# Altium footprint library BQ29330DBT.PcbLib: 3 footprints
Each footprint in its own frame and in the unit in brackets; x right, y up, seen from the top. Pads: shape width x height; smd on the part's side, far side on the other; paste and mask are expansions set on the pad; w line width, h text height; cw(c..) or ccw(c..) is an arc to the next point about the centre after c.
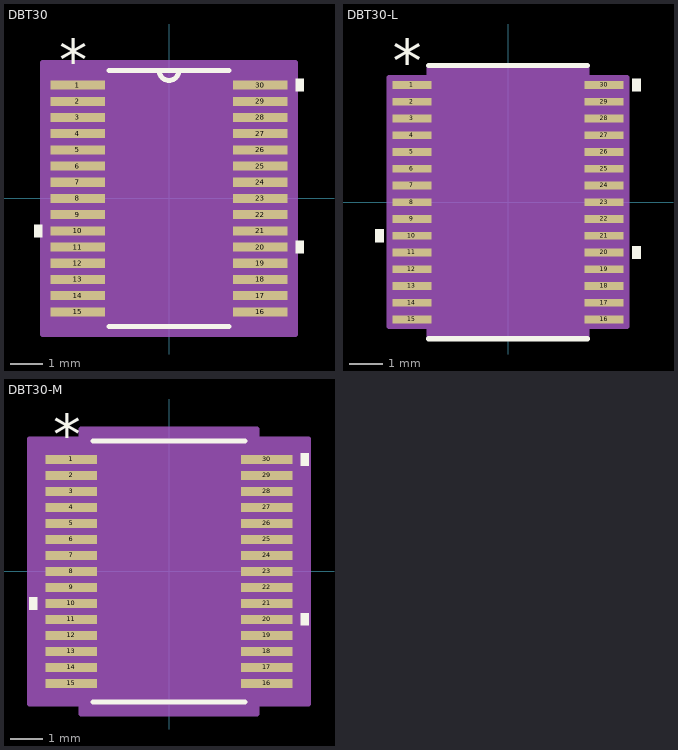
[diagram p0: the footprints below, top view; thin cyan lines are the x and y axes]

## DBT30 [mil]
pads (30):
  rect 66x11 smd paste-33 mask-33: 1(-111,137.8) 2(-111,118.11) 3(-111,98.43) 4(-111,78.74) 5(-111,59.06) 6(-111,39.37) 7(-111,19.68) 8(-111,0) 9(-111,-19.69) 10(-111,-39.37) 11(-111,-59.06) 12(-111,-78.74) 13(-111,-98.43) 14(-111,-118.11) 15(-111,-137.8) 16(111,-137.8) 17(111,-118.11) 18(111,-98.43) 19(111,-78.74) 20(111,-59.06) 21(111,-39.37) 22(111,-19.68) 23(111,0) 24(111,19.69) 25(111,39.37) 26(111,59.06) 27(111,78.74) 28(111,98.43) 29(111,118.11) 30(111,137.8)
Top Overlay:
  region: 154,145.3 164,145.3 164,130.3 154,130.3
  region: 154,-51.56 164,-51.56 164,-66.56 154,-66.56
  region: -154,-31.87 -164,-31.87 -164,-46.87 -154,-46.87
  lines w6: -73.24,-155.5 73.24,-155.5 ; -73.24,155.5 73.24,155.5 ; -12,155.5 ccw(c0,155.5) 12,155.5
  text "*" at -133.5,143.8 h50
Mechanical 13:
  lines w0: -12,155.5 ccw(c0,155.5) 12,155.5
  lines w1: -130,-143.3 -88.5,-143.3 -88.5,-132.3 -130,-132.3 -130,-143.3 ; -130,-123.61 -88.5,-123.61 -88.5,-112.61 -130,-112.61 -130,-123.61 ; -130,-103.93 -88.5,-103.93 -88.5,-92.93 -130,-92.93 -130,-103.93 ; -130,-84.24 -88.5,-84.24 -88.5,-73.24 -130,-73.24 -130,-84.24 ; -130,-64.56 -88.5,-64.56 -88.5,-53.56 -130,-53.56 -130,-64.56 ; -130,-44.87 -88.5,-44.87 -88.5,-33.87 -130,-33.87 -130,-44.87 ; -130,-25.19 -88.5,-25.19 -88.5,-14.19 -130,-14.19 -130,-25.19 ; -130,-5.5 -88.5,-5.5 -88.5,5.5 -130,5.5 -130,-5.5 ; -130,14.19 -88.5,14.19 -88.5,25.18 -130,25.18 -130,14.19 ; -130,33.87 -88.5,33.87 -88.5,44.87 -130,44.87 -130,33.87 ; -130,53.56 -88.5,53.56 -88.5,64.56 -130,64.56 -130,53.56 ; -130,73.24 -88.5,73.24 -88.5,84.24 -130,84.24 -130,73.24 ; -130,92.93 -88.5,92.93 -88.5,103.93 -130,103.93 -130,92.93 ; -130,112.61 -88.5,112.61 -88.5,123.61 -130,123.61 -130,112.61 ; -130,132.3 -88.5,132.3 -88.5,143.3 -130,143.3 -130,132.3 ; -88.5,-155.5 -88.5,155.5 88.5,155.5 88.5,-155.5 -88.5,-155.5 ; 88.5,-143.3 130,-143.3 130,-132.3 88.5,-132.3 88.5,-143.3 ; 88.5,-123.61 130,-123.61 130,-112.61 88.5,-112.61 88.5,-123.61 ; 88.5,-103.93 130,-103.93 130,-92.93 88.5,-92.93 88.5,-103.93 ; 88.5,-84.24 130,-84.24 130,-73.24 88.5,-73.24 88.5,-84.24 ; 88.5,-64.56 130,-64.56 130,-53.56 88.5,-53.56 88.5,-64.56 ; 88.5,-44.87 130,-44.87 130,-33.87 88.5,-33.87 88.5,-44.87 ; 88.5,-25.18 130,-25.18 130,-14.19 88.5,-14.19 88.5,-25.18 ; 88.5,-5.5 130,-5.5 130,5.5 88.5,5.5 88.5,-5.5 ; 88.5,14.19 130,14.19 130,25.19 88.5,25.19 88.5,14.19 ; 88.5,33.87 130,33.87 130,44.87 88.5,44.87 88.5,33.87 ; 88.5,53.56 130,53.56 130,64.56 88.5,64.56 88.5,53.56 ; 88.5,73.24 130,73.24 130,84.24 88.5,84.24 88.5,73.24 ; 88.5,92.93 130,92.93 130,103.93 88.5,103.93 88.5,92.93 ; 88.5,112.61 130,112.61 130,123.61 88.5,123.61 88.5,112.61 ; 88.5,132.3 130,132.3 130,143.3 88.5,143.3 88.5,132.3
  text "*" at -133.5,143.8 h50
Mechanical 15:
  region: 154,-165.5 -154,-165.5 -154,165.5 154,165.5
  lines w6: -154,-165.5 154,-165.5 154,165.5 -154,165.5 -154,-165.5
3D body "DBT30.step": height 47.09, standoff 0, extent -128.86,-155.54 131.14,155.49
3D body "DBT30.step": height 47.09, standoff 0, extent -130,-155.51 130,155.51

## DBT30-L [mil]
pads (30):
  rect 46x9 smd paste+0 mask+0: 1(-113,137.8) 2(-113,118.11) 3(-113,98.43) 4(-113,78.74) 5(-113,59.06) 6(-113,39.37) 7(-113,19.68) 8(-113,0) 9(-113,-19.69) 10(-113,-39.37) 11(-113,-59.06) 12(-113,-78.74) 13(-113,-98.43) 14(-113,-118.11) 15(-113,-137.8) 16(113,-137.8) 17(113,-118.11) 18(113,-98.43) 19(113,-78.74) 20(113,-59.06) 21(113,-39.37) 22(113,-19.68) 23(113,0) 24(113,19.69) 25(113,39.37) 26(113,59.06) 27(113,78.74) 28(113,98.43) 29(113,118.11) 30(113,137.8)
Top Overlay:
  region: -146,-31.87 -156,-31.87 -156,-46.87 -146,-46.87
  region: 146,-51.56 156,-51.56 156,-66.56 146,-66.56
  region: 146,145.3 156,145.3 156,130.3 146,130.3
  lines w6: -93.5,-160.5 93.5,-160.5 ; -93.5,160.5 93.5,160.5
  text "*" at -135.5,141.8 h50
Mechanical 13:
  lines w0: -12,155.5 ccw(c0,155.5) 12,155.5
  lines w1: -130,-143.3 -130,-132.3 -88.5,-132.3 -88.5,-143.3 -130,-143.3 ; -130,-123.61 -130,-112.61 -88.5,-112.61 -88.5,-123.61 -130,-123.61 ; -130,-103.93 -130,-92.93 -88.5,-92.93 -88.5,-103.93 -130,-103.93 ; -130,-84.24 -130,-73.24 -88.5,-73.24 -88.5,-84.24 -130,-84.24 ; -130,-64.56 -130,-53.56 -88.5,-53.56 -88.5,-64.56 -130,-64.56 ; -130,-44.87 -130,-33.87 -88.5,-33.87 -88.5,-44.87 -130,-44.87 ; -130,-25.19 -130,-14.19 -88.5,-14.19 -88.5,-25.19 -130,-25.19 ; -130,-5.5 -130,5.5 -88.5,5.5 -88.5,-5.5 -130,-5.5 ; -130,14.19 -130,25.18 -88.5,25.18 -88.5,14.19 -130,14.19 ; -130,33.87 -130,44.87 -88.5,44.87 -88.5,33.87 -130,33.87 ; -130,53.56 -130,64.56 -88.5,64.56 -88.5,53.56 -130,53.56 ; -130,73.24 -130,84.24 -88.5,84.24 -88.5,73.24 -130,73.24 ; -130,92.93 -130,103.93 -88.5,103.93 -88.5,92.93 -130,92.93 ; -130,112.61 -130,123.61 -88.5,123.61 -88.5,112.61 -130,112.61 ; -130,132.3 -130,143.3 -88.5,143.3 -88.5,132.3 -130,132.3 ; -88.5,-155.5 88.5,-155.5 88.5,155.5 -88.5,155.5 -88.5,-155.5 ; 88.5,-143.3 88.5,-132.3 130,-132.3 130,-143.3 88.5,-143.3 ; 88.5,-123.61 88.5,-112.61 130,-112.61 130,-123.61 88.5,-123.61 ; 88.5,-103.93 88.5,-92.93 130,-92.93 130,-103.93 88.5,-103.93 ; 88.5,-84.24 88.5,-73.24 130,-73.24 130,-84.24 88.5,-84.24 ; 88.5,-64.56 88.5,-53.56 130,-53.56 130,-64.56 88.5,-64.56 ; 88.5,-44.87 88.5,-33.87 130,-33.87 130,-44.87 88.5,-44.87 ; 88.5,-25.18 88.5,-14.19 130,-14.19 130,-25.18 88.5,-25.18 ; 88.5,-5.5 88.5,5.5 130,5.5 130,-5.5 88.5,-5.5 ; 88.5,14.19 88.5,25.19 130,25.19 130,14.19 88.5,14.19 ; 88.5,33.87 88.5,44.87 130,44.87 130,33.87 88.5,33.87 ; 88.5,53.56 88.5,64.56 130,64.56 130,53.56 88.5,53.56 ; 88.5,73.24 88.5,84.24 130,84.24 130,73.24 88.5,73.24 ; 88.5,92.93 88.5,103.93 130,103.93 130,92.93 88.5,92.93 ; 88.5,112.61 88.5,123.61 130,123.61 130,112.61 88.5,112.61 ; 88.5,132.3 88.5,143.3 130,143.3 130,132.3 88.5,132.3
  text "*" at -86,102.5 h50
Mechanical 15:
  region: -92.5,-146.3 -140,-146.3 -140,146.3 -92.5,146.3 -92.5,159.5 92.5,159.5 92.5,146.3 140,146.3 140,-146.3 92.5,-146.3 92.5,-159.5 -92.5,-159.5
  lines w6: -140,-146.3 -140,146.3 -92.5,146.3 -92.5,159.5 92.5,159.5 92.5,146.3 140,146.3 140,-146.3 92.5,-146.3 92.5,-159.5 -92.5,-159.5 -92.5,-146.3 -140,-146.3
3D body "DBT30.step": height 47.09, standoff 0, extent -130,-155.51 130,155.51

## DBT30-M [mil]
pads (30):
  rect 63.5x11 smd paste+0 mask+0: 1(-120.25,137.8) 2(-120.25,118.11) 3(-120.25,98.43) 4(-120.25,78.74) 5(-120.25,59.06) 6(-120.25,39.37) 7(-120.25,19.68) 8(-120.25,0) 9(-120.25,-19.69) 10(-120.25,-39.37) 11(-120.25,-59.06) 12(-120.25,-78.74) 13(-120.25,-98.43) 14(-120.25,-118.11) 15(-120.25,-137.8) 16(120.25,-137.8) 17(120.25,-118.11) 18(120.25,-98.43) 19(120.25,-78.74) 20(120.25,-59.06) 21(120.25,-39.37) 22(120.25,-19.68) 23(120.25,0) 24(120.25,19.69) 25(120.25,39.37) 26(120.25,59.06) 27(120.25,78.74) 28(120.25,98.43) 29(120.25,118.11) 30(120.25,137.8)
Top Overlay:
  region: -162,-31.87 -172,-31.87 -172,-46.87 -162,-46.87
  region: 162,-51.56 172,-51.56 172,-66.56 162,-66.56
  region: 162,145.3 172,145.3 172,130.3 162,130.3
  lines w6: -93.5,-160.5 93.5,-160.5 ; -93.5,160.5 93.5,160.5
  text "*" at -142.75,143.8 h50
Mechanical 13:
  lines w0: -12,155.5 ccw(c0,155.5) 12,155.5
  lines w1: -130,-143.3 -130,-132.3 -88.5,-132.3 -88.5,-143.3 -130,-143.3 ; -130,-123.61 -130,-112.61 -88.5,-112.61 -88.5,-123.61 -130,-123.61 ; -130,-103.93 -130,-92.93 -88.5,-92.93 -88.5,-103.93 -130,-103.93 ; -130,-84.24 -130,-73.24 -88.5,-73.24 -88.5,-84.24 -130,-84.24 ; -130,-64.56 -130,-53.56 -88.5,-53.56 -88.5,-64.56 -130,-64.56 ; -130,-44.87 -130,-33.87 -88.5,-33.87 -88.5,-44.87 -130,-44.87 ; -130,-25.19 -130,-14.19 -88.5,-14.19 -88.5,-25.19 -130,-25.19 ; -130,-5.5 -130,5.5 -88.5,5.5 -88.5,-5.5 -130,-5.5 ; -130,14.19 -130,25.18 -88.5,25.18 -88.5,14.19 -130,14.19 ; -130,33.87 -130,44.87 -88.5,44.87 -88.5,33.87 -130,33.87 ; -130,53.56 -130,64.56 -88.5,64.56 -88.5,53.56 -130,53.56 ; -130,73.24 -130,84.24 -88.5,84.24 -88.5,73.24 -130,73.24 ; -130,92.93 -130,103.93 -88.5,103.93 -88.5,92.93 -130,92.93 ; -130,112.61 -130,123.61 -88.5,123.61 -88.5,112.61 -130,112.61 ; -130,132.3 -130,143.3 -88.5,143.3 -88.5,132.3 -130,132.3 ; -88.5,-155.5 88.5,-155.5 88.5,155.5 -88.5,155.5 -88.5,-155.5 ; 88.5,-143.3 88.5,-132.3 130,-132.3 130,-143.3 88.5,-143.3 ; 88.5,-123.61 88.5,-112.61 130,-112.61 130,-123.61 88.5,-123.61 ; 88.5,-103.93 88.5,-92.93 130,-92.93 130,-103.93 88.5,-103.93 ; 88.5,-84.24 88.5,-73.24 130,-73.24 130,-84.24 88.5,-84.24 ; 88.5,-64.56 88.5,-53.56 130,-53.56 130,-64.56 88.5,-64.56 ; 88.5,-44.87 88.5,-33.87 130,-33.87 130,-44.87 88.5,-44.87 ; 88.5,-25.18 88.5,-14.19 130,-14.19 130,-25.18 88.5,-25.18 ; 88.5,-5.5 88.5,5.5 130,5.5 130,-5.5 88.5,-5.5 ; 88.5,14.19 88.5,25.19 130,25.19 130,14.19 88.5,14.19 ; 88.5,33.87 88.5,44.87 130,44.87 130,33.87 88.5,33.87 ; 88.5,53.56 88.5,64.56 130,64.56 130,53.56 88.5,53.56 ; 88.5,73.24 88.5,84.24 130,84.24 130,73.24 88.5,73.24 ; 88.5,92.93 88.5,103.93 130,103.93 130,92.93 88.5,92.93 ; 88.5,112.61 88.5,123.61 130,123.61 130,112.61 88.5,112.61 ; 88.5,132.3 88.5,143.3 130,143.3 130,132.3 88.5,132.3
  text "*" at -86,102.5 h50
Mechanical 15:
  region: -108.5,-163.3 -172,-163.3 -172,163.3 -108.5,163.3 -108.5,175.5 108.5,175.5 108.5,163.3 172,163.3 172,-163.3 108.5,-163.3 108.5,-175.5 -108.5,-175.5
  lines w6: -172,-163.3 -172,163.3 -108.5,163.3 -108.5,175.5 108.5,175.5 108.5,163.3 172,163.3 172,-163.3 108.5,-163.3 108.5,-175.5 -108.5,-175.5 -108.5,-163.3 -172,-163.3
3D body "DBT30.step": height 47.09, standoff 0, extent -130,-155.51 130,155.51